# EAGLE library part LM5114BMFX/S7003094 (library SOT26)
SOT26 Gate Driver
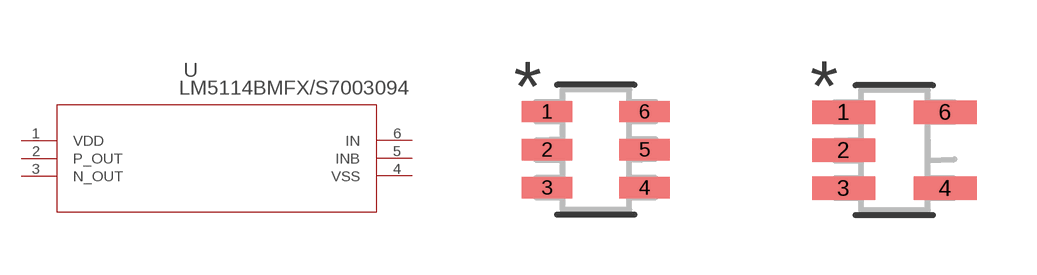
[diagram p0: symbol with the pads of MF06A; footprints MF06A, MF06A-M]

Designator prefix U

## LM5114BMFX/S7003094 (MANUFACTURER_PART_NUMBER: LM5114BMFXS7003094; VENDOR: National Semiconductor)  [MF06A]
1  VDD  pwr
2  P_OUT  out
3  N_OUT  out
4  VSS  pwr
5  INB  nc
6  IN  in

## LM5114BMFX/S7003094MF06A-M (MANUFACTURER_PART_NUMBER: LM5114BMFXS7003094; VENDOR: National Semiconductor)  [MF06A-M]
1  VDD  pwr
2  IN  in
3  VSS  pwr
4  N_OUT  out
6  P_OUT  out

## LM5114BMFX/S7003094MF06A-L (MANUFACTURER_PART_NUMBER: LM5114BMFXS7003094; VENDOR: National Semiconductor)  [MF06A-L]
Pads as for MF06A

## LM5114BMFX/S7003094SOT26-GATEDRIVER  [MF06A]
1  VDD  pwr
2  IN  in
3  VSS  pwr
4  N_OUT  out
5  INB  nc
6  P_OUT  out

## Footprint MF06A (pad centres in mm)
smd 1.27 x 0.533: 1 -1.219,0.953; 2 -1.219,0; 3 -1.219,-0.953; 4 1.219,-0.953; 5 1.219,0; 6 1.219,0.953

## Footprint MF06A-M (pad centres in mm)
smd 1.575 x 0.584: 1 -1.27,0.953; 2 -1.27,0; 3 -1.27,-0.953; 4 1.27,-0.953; 6 1.27,0.953

## Footprint MF06A-L (pad centres in mm)
smd 0.965 x 0.483: 1 -1.168,0.953; 2 -1.168,0; 3 -1.168,-0.953; 4 1.168,-0.953; 5 1.168,0; 6 1.168,0.953